# Altium footprint library SON-6.PcbLib: 1 footprints
Each footprint in its own frame and in the unit in brackets; x right, y up, seen from the top. Pads: shape width x height; smd on the part's side, far side on the other; paste and mask are expansions set on the pad; w line width, h text height; cw(c..) or ccw(c..) is an arc to the next point about the centre after c.
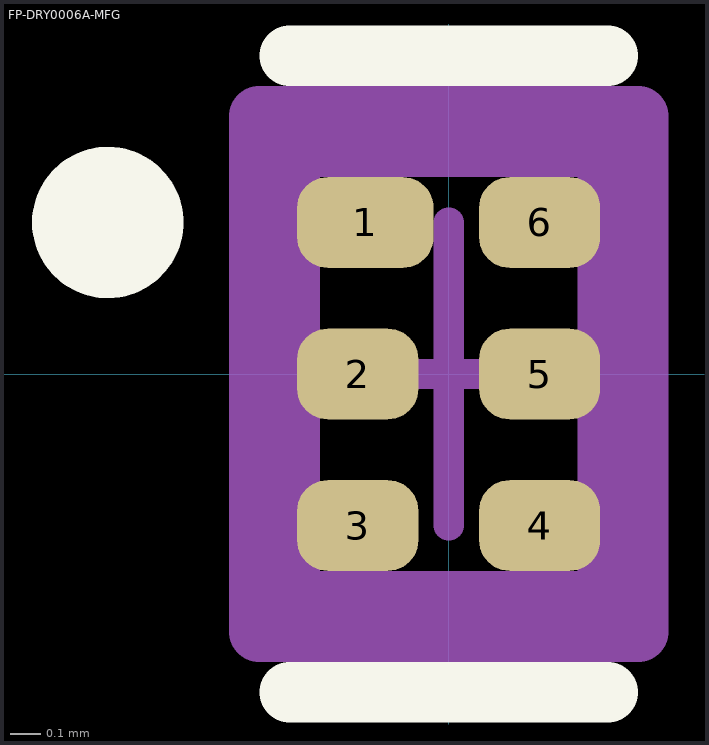
[diagram p0: the footprint, top view; thin cyan lines are the x and y axes]

## FP-DRY0006A-MFG [mm]
pads (6):
  rrect67% 0.45x0.3 smd paste-1000 mask-1000: 1(-0.275,0.5)
  rrect67% 0.4x0.3 smd paste-1000 mask-1000: 2(-0.3,0) 3(-0.3,-0.5) 4(0.3,-0.5) 5(0.3,0) 6(0.3,0.5)
Top Overlay:
  circle w0.25: c-1.125,0.5 r0.125
  lines w0.2: -0.525,-1.05 0.525,-1.05 ; -0.525,1.05 0.525,1.05
Top Paste:
  drawing of 7 lines, arcs and shapes, not listed
Top Solder:
  drawing of 6 lines, arcs and shapes, not listed
Top Assembly:
  lines w0.2: -0.625,-0.85 -0.625,0.85 0.625,0.85 0.625,-0.85 -0.625,-0.85
  text ".Designator" at 0,0.187 h1
Top 3D Body:
  lines w0.2: -0.525,-0.75 -0.525,0.75 0.525,0.75 0.525,-0.75 -0.525,-0.75
Top Courtyard:
  lines w0.2: -0.625,-0.85 -0.625,0.85 0.625,0.85 0.625,-0.85 -0.625,-0.85
Top Component Center:
  lines w0.1: -0.5,0 0.5,0 ; 0,-0.5 0,0.5
3D body "IC_Texas_Instruments_TLV4062DRYR_eec.STEP": height 0.25, standoff 0, extent -0.625,-0.85 0.625,0.85